# Altium integrated library WL-SMSW SMD chip LED side view mono-color waterclear.IntLib: 5 symbols
Pins are listed as number, name and electrical type; pins without a type are passive.

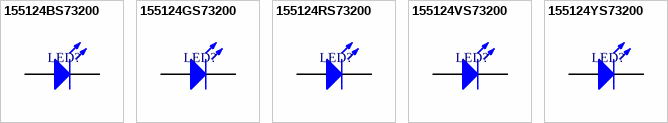
[diagram p0: symbols 155124BS73200 to 155124YS73200]

## 155124BS73200
designator LED?
SMD Side view mono-color Chip LED-Round , WL-SMSW, Blue; PartNumber: 155124BS73200; PackageReference: 1204; Color: Blue; ComponentLink1Description: Manufacturer URL; ComponentLink1URL: http://www.we-online.com; ComponentLink2Description: Datasheet; ComponentLink2URL: http://katalog.we-online.com/led/datasheet/155124BS73200.pdf
footprint 1204 (Chip LED, 2-Leads, Body 1.0x3.2mm)
pins: 1 K, 2 A

## 155124GS73200
designator LED?
SMD Side view mono-color Chip LED-Round , WL-SMSW, Green; PartNumber: 155124GS73200; Color: Yellow; PackageReference: 1204; ComponentLink1Description: Manufacturer URL; ComponentLink1URL: http://www.we-online.com; ComponentLink2Description: Datasheet; ComponentLink2URL: http://katalog.we-online.com/led/datasheet/155124GS73200.pdf
footprint 1204 (Chip LED, 2-Leads, Body 1.0x3.2mm)
pins: 1 K, 2 A

## 155124RS73200
designator LED?
SMD Side view mono-color Chip LED-Round , WL-SMSW, Red; PartNumber: 155124RS73200; PackageReference: 1204; Color: Red; ComponentLink1Description: Manufacturer URL; ComponentLink1URL: http://www.we-online.com; ComponentLink2Description: Datasheet; ComponentLink2URL: http://katalog.we-online.com/led/datasheet/155124RS73200.pdf
footprint 1204 (Chip LED, 2-Leads, Body 1.0x3.2mm)
pins: 1 K, 2 A

## 155124VS73200
designator LED?
SMD Side view mono-color Chip LED-Round , WL-SMSW, Bright Green; PartNumber: 155124VS73200; PackageReference: 1204; Color: Bright Green; ComponentLink1Description: Manufacturer URL; ComponentLink1URL: http://www.we-online.com; ComponentLink2Description: Datasheet; ComponentLink2URL: http://katalog.we-online.com/led/datasheet/155124VS73200.pdf
footprint 1204 (Chip LED, 2-Leads, Body 1.0x3.2mm)
pins: 1 K, 2 A

## 155124YS73200
designator LED?
SMD Side view mono-color Chip LED-Round , WL-SMSW, Yellow; PartNumber: 155124YS73200; PackageReference: 1204; Color: Yellow; ComponentLink1Description: Manufacturer URL; ComponentLink1URL: http://www.we-online.com; ComponentLink2Description: Datasheet; ComponentLink2URL: http://katalog.we-online.com/led/datasheet/155124YS73200.pdf
footprint 1204 (Chip LED, 2-Leads, Body 1.0x3.2mm)
pins: 1 K, 2 A